# EAGLE library part MPRLS0015PG0000SA (library MPRLS Pressure Sensor)
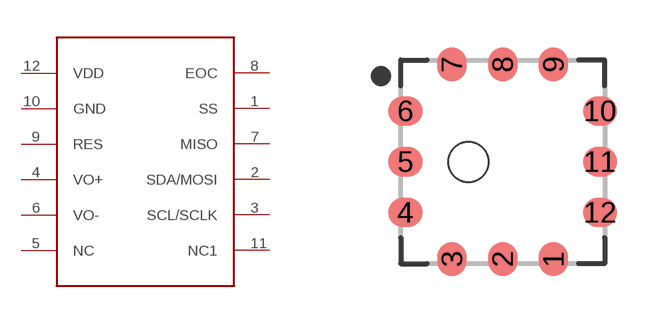
[diagram p0: symbol with the pads of QFN127P500X500X582-12N; footprint QFN127P500X500X582-12N]

Designator prefix -

## MPRLS0015PG0000SAMPRLS0015PG0000SA  [QFN127P500X500X582-12N]
1  SS
2  SDA/MOSI
3  SCL/SCLK
4  VO+
5  NC
6  VO-
7  MISO
8  EOC
9  RES
10  GND
11  NC1
12  VDD

## Footprint QFN127P500X500X582-12N (pad centres in mm)
12-QFN, 1.27 mm pitch, 5.00 X 5.00 X 5.82 mm body 12-pin QFN package with 1.27 mm pitch with body size 5.00 X 5.00 X 5.82 mm
smd 0.743 x 0.86: 1 1.27,-2.435; 2 0,-2.435; 3 -1.27,-2.435; 7 -1.27,2.435; 8 0,2.435; 9 1.27,2.435
smd 0.86 x 0.743: 4 -2.435,-1.27; 5 -2.435,0; 6 -2.435,1.27; 10 2.435,1.27; 11 2.435,0; 12 2.435,-1.27
hole 1 at -0.86,0